# Altium footprint library DFN.PcbLib: 4 footprints
Each footprint in its own frame and in the unit in brackets; x right, y up, seen from the top. Pads: shape width x height; smd on the part's side, far side on the other; paste and mask are expansions set on the pad; w line width, h text height; cw(c..) or ccw(c..) is an arc to the next point about the centre after c.
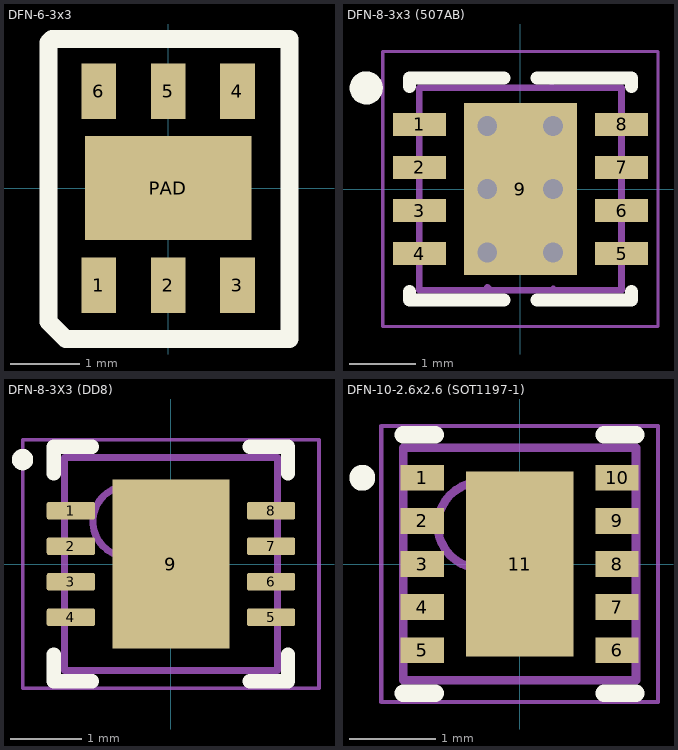
[diagram p0: the footprints below, top view; thin cyan lines are the x and y axes]

## DFN-6-3x3 [mm]
height 1.2
pads (7):
  rect 0.5x0.8 smd: 1(-1,-1.4) 2(0,-1.4) 3(1,-1.4) 4(1,1.4) 5(0,1.4) 6(-1,1.4)
  rect 2.4x1.5 smd: PAD(0,0)
Top Overlay:
  lines w0.254: -1.725,-1.925 -1.475,-2.175 1.75,-2.175 1.75,2.15 -1.675,2.15 -1.725,2.1 -1.725,-1.925
3D body "User Library-dfn6_3x3_rm0_95.step": height 0.75, standoff -0.05, extent -1.475,-1.55 1.525,1.55

## DFN-8-3x3 (507AB) [mm] "DFN, 8-Leads, Body 3.00x3.00mm, Pitch 0.65mm, Thermal Pad 1.70x2.60mm, IPC Medium Density"
height 0.9
pads (9):
  rect 0.8x0.35 smd mask+0.05: 1(-1.525,0.975) 2(-1.525,0.325) 3(-1.525,-0.325) 4(-1.525,-0.975) 5(1.525,-0.975) 6(1.525,-0.325) 7(1.525,0.325) 8(1.525,0.975)
  rect 1.7x2.6 smd mask+0.05: 9(0,0)
via 0.494,-0.96 diameter 0.6 hole 0.3
via -0.5,-0.96 diameter 0.6 hole 0.3
via -0.5,0.95 diameter 0.6 hole 0.3
via 0.494,0.95 diameter 0.6 hole 0.3
via 0.494,0 diameter 0.6 hole 0.3
via -0.5,0 diameter 0.6 hole 0.3
Top Overlay:
  circle w0.25: c-2.325,1.525 r0.125
  lines w0.2: -1.675,-1.55 -1.675,-1.675 -0.25,-1.675 ; -1.675,1.55 -1.675,1.675 -0.25,1.675 ; 0.25,-1.675 1.675,-1.675 1.675,-1.55 ; 0.25,1.675 1.675,1.675 1.675,1.55
Mechanical 13:
  lines w0.1: -0.5,-1.48 -0.48,-1.5 ; 0.47,1.55 0.494,1.526 ; 0.494,-1.504 0.51,-1.52 ; 1.51,0.95 1.52,0.96 ; 1.52,-0.96 1.53,-0.95 ; -1.525,-1.525 -1.525,1.525 1.525,1.525 1.525,-1.525 -1.525,-1.525
Mechanical 15:
  lines w0.05: -2.075,-2.075 -2.075,2.075 2.075,2.075 2.075,-2.075 -2.075,-2.075
  lines w0.1: -0.5,0 0.5,0 ; 0,-0.5 0,0.5
3D body "DFN-8-3x3 (507AB).step": height 0.9, standoff 0, extent -1.575,-1.525 1.575,1.525

## DFN-8-3X3 (DD8) [mm] "DFN, 8-Leads, Body 3.00x3.00mm, Pitch 0.50mm, Thermal Pad 2.41x1.16mm, IPC Medium Density"
height 0.8
pads (9):
  rrect25% 0.68x0.25 smd mask+0.05: 1(-1.41,0.75) 2(-1.41,0.25) 3(-1.41,-0.25) 4(-1.41,-0.75) 5(1.41,-0.75) 6(1.41,-0.25) 7(1.41,0.25) 8(1.41,0.75)
  rect 1.65x2.38 smd mask+0.05: 9(0,0)
Top Overlay:
  circle w0.2: c-2.09,1.47 r0.05
  lines w0.2: -1.65,-1.275 -1.65,-1.65 -1.11,-1.65 ; -1.65,1.275 -1.65,1.65 -1.11,1.65 ; 1.11,-1.65 1.65,-1.65 1.65,-1.275 ; 1.11,1.65 1.65,1.65 1.65,1.275
Mechanical 13:
  circle w0.1: c-0.6,0.6 r0.5
  lines w0.1: -1.5,-1.5 -1.5,1.5 1.5,1.5 1.5,-1.5 -1.5,-1.5
Mechanical 15:
  lines w0.05: -2.085,-1.75 -2.085,1.75 2.085,1.75 2.085,-1.75 -2.085,-1.75
  lines w0.1: -0.5,0 0.5,0 ; 0,-0.5 0,0.5
3D body "DFN-8-3X3 (DD8).step": height 0.8, standoff 0, extent -1.55,-1.5 1.55,1.5

## DFN-10-2.6x2.6 (SOT1197-1) [mm] "DFN, 10-Leads, Body 2.60x2.60mm, Pitch 0.50mm, Thermal Pad 2.15x1.25mm, IPC Medium Density"
height 0.5
pads (11):
  rect 0.5x0.3 smd mask+0.05: 1(-1.13,1) 2(-1.13,0.5) 3(-1.13,0) 4(-1.13,-0.5) 5(-1.13,-1) 6(1.13,-1) 7(1.13,-0.5) 8(1.13,0) 9(1.13,0.5) 10(1.13,1)
  rect 1.25x2.15 smd: 11(0,0)
Top Overlay:
  circle w0.2: c-1.825,1 r0.05
  lines w0.2: -1.35,-1.5 -0.98,-1.5 ; -1.35,1.5 -0.98,1.5 ; 0.98,-1.5 1.35,-1.5 ; 0.98,1.5 1.35,1.5
Mechanical 13:
  circle w0.1: c-0.45,0.45 r0.5
  lines w0.1: -1.35,-1.35 1.35,-1.35 1.35,1.35 -1.35,1.35 -1.35,-1.35
Mechanical 15:
  lines w0.05: -1.605,-1.6 1.605,-1.6 1.605,1.6 -1.605,1.6 -1.605,-1.6
  lines w0.1: -0.5,0 0.5,0 ; 0,-0.5 0,0.5
3D body "DFN-10.step": height 0.5, standoff 0, extent -1.351,-1.35 1.351,1.35